# EAGLE library part RFSW1012TR7 (library RFSW1012TR7)
RF Switch ICs .05-6GHz SPDT IL .45dB Max. Source: Datasheet <http://www.qorvo.com/products/d/da001146>
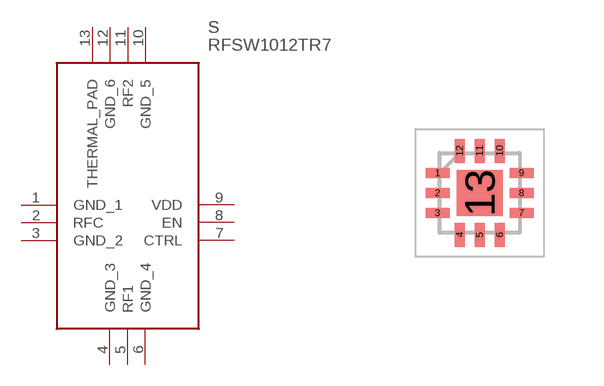
[diagram p0: symbol with the pads of QFN50P200X200X60-13N; footprint QFN50P200X200X60-13N]

Designator prefix S

## RFSW1012TR7 (Description: RF Switch ICs .05-6GHz SPDT IL .45dB Max.; Height: 0.6mm; Manufacturer_Name: RFMD; Manufacturer_Part_Number: RFSW1012TR7; Mouser_Part_Number: 772-RFSW1012; Mouser_Price-Stock: https://www.mouser.com/Search/Refine.aspx?Keyword=772-RFSW1012)  [QFN50P200X200X60-13N]
1  GND_1
2  RFC
3  GND_2
4  GND_3
5  RF1
6  GND_4
7  CTRL
8  EN
9  VDD
10  GND_5
11  RF2
12  GND_6
13  THERMAL_PAD

## Footprint QFN50P200X200X60-13N (pad centres in mm)
RFSW1012
smd 0.6 x 0.25: 1 -1.05,0.5; 2 -1.05,0; 3 -1.05,-0.5; 7 1.05,-0.5; 8 1.05,0; 9 1.05,0.5
smd 0.25 x 0.6: 4 -0.5,-1.05; 5 0,-1.05; 6 0.5,-1.05; 10 0.5,1.05; 11 0,1.05; 12 -0.5,1.05
smd 1.15 x 1.15: 13 0,0